# Altium schematic symbol library Diod.SchLib: 1 symbol
Pins are listed as number, name and electrical type; pins without a type are passive.

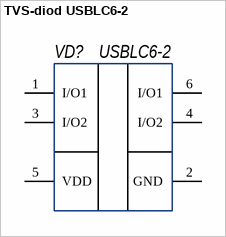
[diagram p0: symbol TVS-diod USBLC6-2]

## TVS-diod USBLC6-2
designator VD?, comment USBLC6-2
Model: *; Manufcacture: *; HelpURL: *; Case: *; Value: *
footprint TVS USBLC6-2
pins: 1 I/O1, 2 GND, 3 I/O2, 4 I/O2, 5 VDD, 6 I/O1